# Altium schematic symbol library DfPlayer_board.SchLib: 3 symbols
Pins are listed as number, name and electrical type; pins without a type are passive.

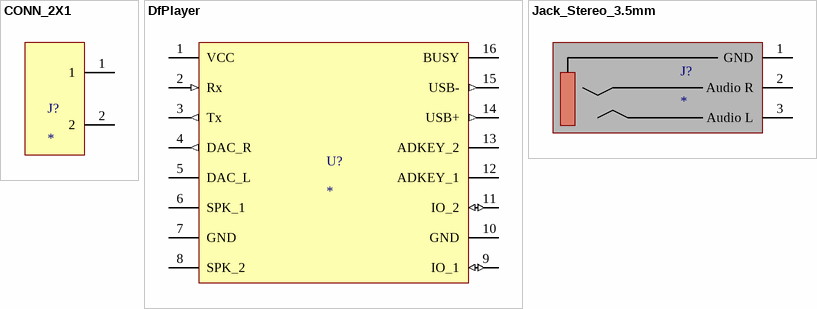
[diagram p0: symbols CONN_2X1 to Jack_Stereo_3.5mm]

## CONN_2X1
designator J?
Connector 2 vias 1 Row
pins: 1, 2

## DfPlayer
designator U?
Header for DfPlayer mini MP3 2x8 pins
pins: 1 VCC, 2 Rx (in), 3 Tx (out), 4 DAC_R (out), 5 DAC_L, 6 SPK_1, 7 GND (power), 8 SPK_2, 9 IO_1 (io), 10 GND (power), 11 IO_2 (io), 12 ADKEY_1, 13 ADKEY_2, 14 USB+ (out), 15 USB- (out), 16 BUSY

## Jack_Stereo_3.5mm
designator J?
Conector Jack stereo 3.5mm sin microfono
pins: 1 GND (power), 2 Audio R, 3 Audio L